# EAGLE library part SAMTEC-TFM-110-02-L-D-DS (library greg-Connector)
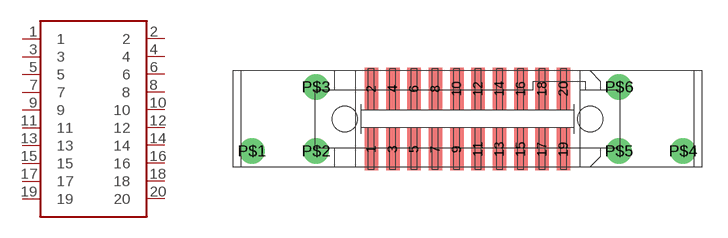
[diagram p7: symbol with the pads of SAMTEC-TFM-110-02-L-D-DS; footprint SAMTEC-TFM-110-02-L-D-DS]

Designator prefix J

## SAMTEC-TFM-110-02-L-D-DS  [SAMTEC-TFM-110-02-L-D-DS]
1  1
2  2
3  3
4  4
5  5
6  6
7  7
8  8
9  9
10  10
11  11
12  12
13  13
14  14
15  15
16  16
17  17
18  18
19  19
20  20

## Footprint SAMTEC-TFM-110-02-L-D-DS (pad centres in mm)
smd 0.8 x 2.5: 1 -5.715,-1.8; 2 -5.715,1.8; 3 -4.445,-1.8; 4 -4.445,1.8; 5 -3.175,-1.8; 6 -3.175,1.8; 7 -1.905,-1.8; 8 -1.905,1.8; 9 -0.635,-1.8; 10 -0.635,1.8; 11 0.635,-1.8; 12 0.635,1.8; 13 1.905,-1.8; 14 1.905,1.8; 15 3.175,-1.8; 16 3.175,1.8; 17 4.445,-1.8; 18 4.445,1.8; 19 5.715,-1.8; 20 5.715,1.8
drill 1: P$1 -12.827,-1.905; P$2 -9.017,-1.905; P$3 -9.017,1.905; P$4 12.827,-1.905; P$5 9.017,-1.905; P$6 9.017,1.905
hole 1.5 at 7.303,0
hole 1.5 at -7.303,0